# Altium footprint library 0805.PcbLib: 2 footprints
Each footprint in its own frame and in the unit in brackets; x right, y up, seen from the top. Pads: shape width x height; smd on the part's side, far side on the other; paste and mask are expansions set on the pad; w line width, h text height; cw(c..) or ccw(c..) is an arc to the next point about the centre after c.
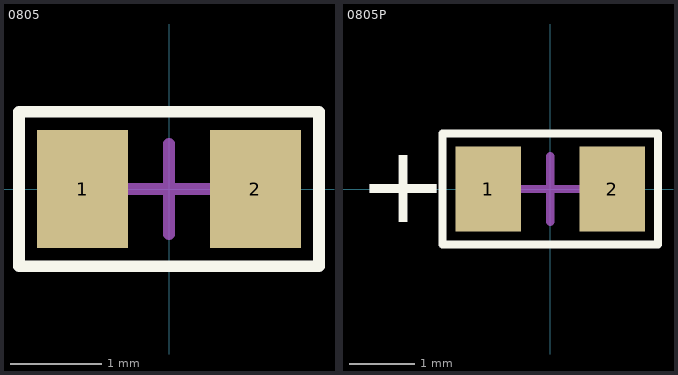
[diagram p0: the footprints below, top view; thin cyan lines are the x and y axes]

## 0805 [mm] "Chip Resistor, 2-Leads, Body 0,8\"x0,5\" - 2,0x1,3mm, IPC High Density"
height 0.7
pads (2):
  rect 1x1.3 smd: 1(-0.95,0) 2(0.95,0)
Top Overlay:
  lines w0.127: -1.65,-0.848 1.65,-0.848 1.65,0.848 -1.65,0.848 -1.65,-0.848
Mechanical 15:
  lines w0.127: -0.5,0 0.5,0 ; 0,-0.5 0,0.5
3D body "0805.STEP": height 0.39, standoff -0.02, extent -1.003,-0.622 0.997,0.628

## 0805P [mm]
height 0.7
pads (2):
  rect 1x1.3 smd: 1(-0.95,0) 2(0.95,0)
Top Overlay:
  lines w0.127: -1.65,-0.848 1.65,-0.848 1.65,0.848 -1.65,0.848 -1.65,-0.848
  text "+" at -2.943,-0.508 h1.2
Mechanical 15:
  lines w0.127: -0.5,0 0.5,0 ; 0,-0.5 0,0.5
3D body "User Library-CaseR_2012-12.step": height 1.38, standoff 0.18, extent -1.003,-0.647 0.997,0.653